# EAGLE library part AK4565 (library xess)
AKM 20-bit stereo codec with pre/post amplifiers
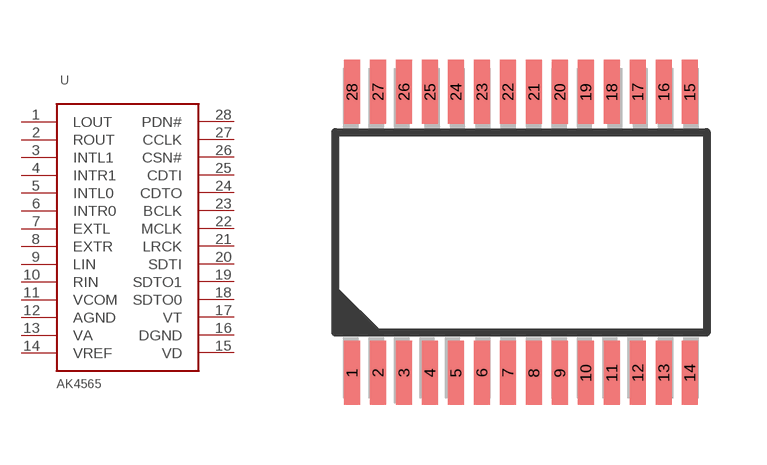
[diagram p16: symbol with the pads of VSOP28; footprint VSOP28]

Designator prefix U

## AK4565  [VSOP28]
1  LOUT  out
2  ROUT  out
3  INTL1  in
4  INTR1  in
5  INTL0  in
6  INTR0  in
7  EXTL  in
8  EXTR  in
9  LIN  in
10  RIN  in
11  VCOM  out
12  AGND  pwr
13  VA  pwr
14  VREF  pwr
15  VD  pwr
16  DGND  pwr
17  VT  pwr
18  SDTO0  out
19  SDTO1  out
20  SDTI  in
21  LRCK  in
22  MCLK  in
23  BCLK  in
24  CDTO  out
25  CDTI  in
26  CSN#  in
27  CCLK  in
28  PDN#  in

## Footprint VSOP28 (pad centres in mm)
smd 0.4 x 1.6: 1 -4.225,-6.6; 2 -3.575,-6.6; 3 -2.925,-6.6; 4 -2.275,-6.6; 5 -1.625,-6.6; 6 -0.975,-6.6; 7 -0.325,-6.6; 8 0.325,-6.6; 9 0.975,-6.6; 10 1.625,-6.6; 11 2.275,-6.6; 12 2.925,-6.6; 13 3.575,-6.6; 14 4.225,-6.6; 15 4.225,0.42; 16 3.575,0.42; 17 2.925,0.42; 18 2.275,0.42; 19 1.625,0.42; 20 0.975,0.42; 21 0.325,0.42; 22 -0.325,0.42; 23 -0.975,0.42; 24 -1.625,0.42; 25 -2.275,0.42; 26 -2.925,0.42; 27 -3.575,0.42; 28 -4.225,0.42